# Altium schematic symbol library LTST-C193KGKT-5A.SchLib: 1 symbol
Pins are listed as number, name and electrical type; pins without a type are passive.

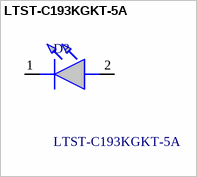
[diagram p0: symbol LTST-C193KGKT-5A]

## LTST-C193KGKT-5A
designator D?
Lite-On 576.5 nm Green LED, 1608 (0603) SMD package; Geometry.Height: 0.45mm; Manufacturer_Name: Lite-On; Manufacturer_Part_Number: LTST-C193KGKT-5A; Mouser Part Number: 859-LTSTC193KGKT5A; Mouser Price/Stock: https://www.mouser.co.uk/ProductDetail/Lite-On/LTST-C193KGKT-5A?qs=yPoNWa0OXtZI%252BhCU67qeGw%3D%3D; Arrow Part Number: LTST-C193KGKT-5A; Arrow Price/Stock: https://www.arrow.com/en/products/ltst-c193kgkt-5a/lite-on-technology?utm_currency=USD&region=europe; Datasheet Link: http://optoelectronics.liteon.com/upload/download/DS22-2007-0094/LTST-C193KGKT-5A.PDF
footprint LEDC1608X45N
pins: 1 K, 2 A